# EAGLE library part RASPBERRY-PI_REV2 (library common)
Raspberry Pi Board <http://www.raspberrypi.org/> Jacques Lagnel V1.0 (beta) 2012 Mateusz Bawaj V1.1 (beta) 2012 Board dimension: Forum 3D model <http://www.raspberrypi.org/forum/general-discussion/mechanical-profile-3d-models?value=3d%20model&type=1&include=1&search=1&ret=all> The GPIO Connector (P1): http://elinux.org/RPi_Low-level_peripherals The GPIO Connector (P5): http://www.raspberrypi-spy.co.uk/2012/09/raspberry-pi-p5-header/
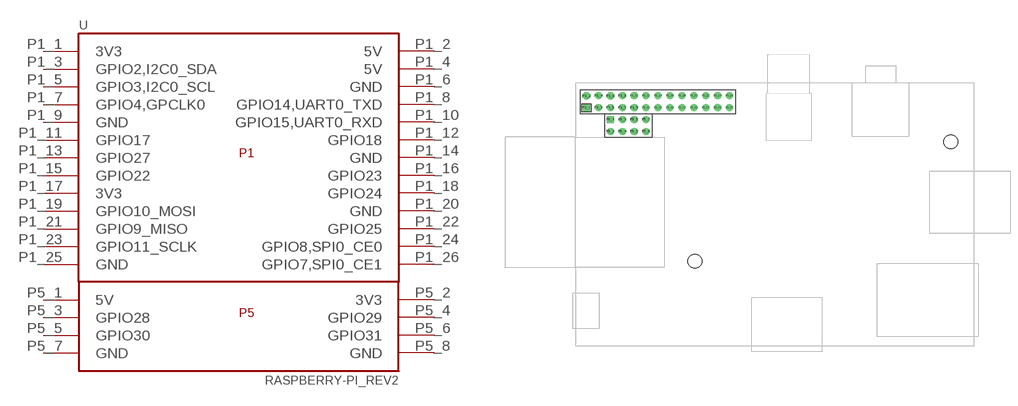
[diagram p11: symbol with the pads of RASPBERRY-PI_REV2; footprint RASPBERRY-PI_REV2]

Designator prefix -

## RASPBERRY-PI_REV2  [RASPBERRY-PI_REV2]
P1_1  3V3
P1_2  5V
P1_3  GPIO2,I2C0_SDA
P1_4  5V
P1_5  GPIO3,I2C0_SCL
P1_6  GND
P1_7  GPIO4,GPCLK0
P1_8  GPIO14,UART0_TXD
P1_9  GND
P1_10  GPIO15,UART0_RXD
P1_11  GPIO17
P1_12  GPIO18
P1_13  GPIO27
P1_14  GND
P1_15  GPIO22
P1_16  GPIO23
P1_17  3V3
P1_18  GPIO24
P1_19  GPIO10_MOSI
P1_20  GND
P1_21  GPIO9_MISO
P1_22  GPIO25
P1_23  GPIO11_SCLK
P1_24  GPIO8,SPI0_CE0
P1_25  GND
P1_26  GPIO7,SPI0_CE1
P5_1  5V
P5_2  3V3
P5_3  GPIO28
P5_4  GPIO29
P5_5  GPIO30
P5_6  GPIO31
P5_7  GND
P5_8  GND

## Footprint RASPBERRY-PI_REV2 (pad centres in mm)
drill 1 square: P1_1 -41.91,21.59; P5_1 -36.83,19.05
drill 1 pad 1.676: P1_2 -41.91,24.13; P1_6 -36.83,24.13
drill 1: P1_3 -39.37,21.59; P1_4 -39.37,24.13; P1_5 -36.83,21.59; P1_7 -34.29,21.59; P1_8 -34.29,24.13; P1_9 -31.75,21.59; P1_10 -31.75,24.13; P1_11 -29.21,21.59; P1_12 -29.21,24.13; P1_13 -26.67,21.59; P1_14 -26.67,24.13; P1_15 -24.13,21.59; P1_16 -24.13,24.13; P1_17 -21.59,21.59; P1_18 -21.59,24.13; P1_19 -19.05,21.59; P1_20 -19.05,24.13; P1_21 -16.51,21.59; P1_22 -16.51,24.13; P1_23 -13.97,21.59; P1_24 -13.97,24.13; P1_25 -11.43,21.59; P1_26 -11.43,24.13; P5_2 -36.83,16.51; P5_3 -34.29,19.05; P5_4 -34.29,16.51; P5_5 -31.75,19.05; P5_6 -31.75,16.51; P5_7 -29.21,19.05; P5_8 -29.21,16.51
hole 2.9 at 35.69,14.365
hole 2.9 at -18.81,-11.135